# EAGLE library part TLV70030DSET (library TLV70030DSET)
200-mA, Low-IQ, Low-Dropout Regulator for Portable Devices
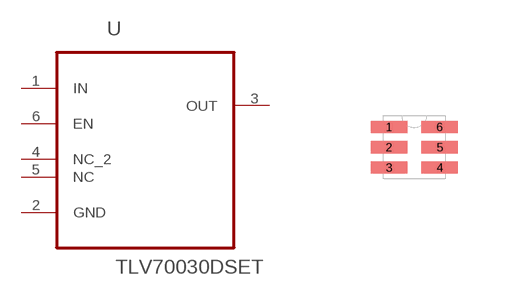
[diagram p0: symbol with the pads of SON50P150X150X80-6N; footprint SON50P150X150X80-6N]

Designator prefix U

## TLV70030DSET (Availability: Good; Description: Fixed LDO Voltage Regulator, 2V to 5.5V, 175mV Dropout, 3Vout, 200mAout, WSON-6; MF: Texas Instruments; MP: TLV70030DSET; Package: WFDFN-6 Texas Instruments; Price: 0.26 USD)  [SON50P150X150X80-6N]
1  IN  pwr
2  GND  pas
3  OUT  out
4  NC_2  nc
5  NC  nc
6  EN  in

## Footprint SON50P150X150X80-6N (pad centres in mm)
smd 0.914 x 0.305: 1 -0.635,0.508; 2 -0.635,0; 3 -0.635,-0.508; 4 0.635,-0.508; 5 0.635,0; 6 0.635,0.508